# EAGLE library part MFRC522 (library MFRC522)
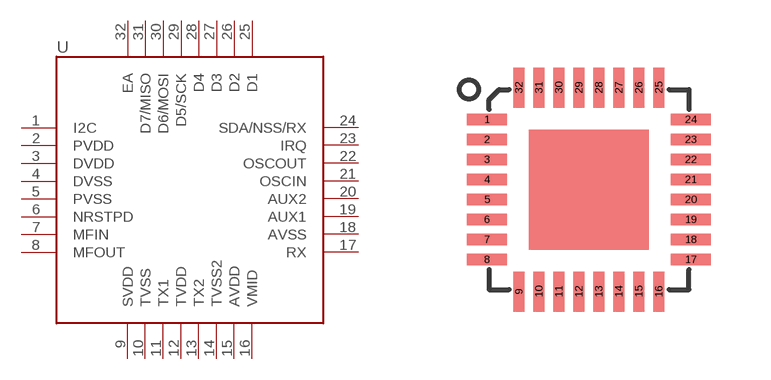
[diagram p0: symbol with the pads of HVQFN32; footprint HVQFN32]

Designator prefix -

## MFRC522  [HVQFN32]
1  I2C
2  PVDD
3  DVDD
4  DVSS
5  PVSS
6  NRSTPD
7  MFIN
8  MFOUT
9  SVDD
10  TVSS
11  TX1
12  TVDD
13  TX2
14  TVSS2
15  AVDD
16  VMID
17  RX
18  AVSS
19  AUX1
20  AUX2
21  OSCIN
22  OSCOUT
23  IRQ
24  SDA/NSS/RX
25  D1
26  D2
27  D3
28  D4
29  D5/SCK
30  D6/MOSI
31  D7/MISO
32  EA

## Footprint HVQFN32 (pad centres in mm)
smd 1 x 0.28: 1 -2.55,1.75; 2 -2.55,1.25; 3 -2.55,0.75; 4 -2.55,0.25; 5 -2.55,-0.25; 6 -2.55,-0.75; 7 -2.55,-1.25; 8 -2.55,-1.75; 17 2.55,-1.75; 18 2.55,-1.25; 19 2.55,-0.75; 20 2.55,-0.25; 21 2.55,0.25; 22 2.55,0.75; 23 2.55,1.25; 24 2.55,1.75
smd 0.28 x 1: 9 -1.75,-2.55; 10 -1.25,-2.55; 11 -0.75,-2.55; 12 -0.25,-2.55; 13 0.25,-2.55; 14 0.75,-2.55; 15 1.25,-2.55; 16 1.75,-2.55; 25 1.75,2.55; 26 1.25,2.55; 27 0.75,2.55; 28 0.25,2.55; 29 -0.25,2.55; 30 -0.75,2.55; 31 -1.25,2.55; 32 -1.75,2.55